# Altium footprint library Fuses.PcbLib: 7 footprints
Each footprint in its own frame and in the unit in brackets; x right, y up, seen from the top. Pads: shape width x height; smd on the part's side, far side on the other; paste and mask are expansions set on the pad; w line width, h text height; cw(c..) or ccw(c..) is an arc to the next point about the centre after c.
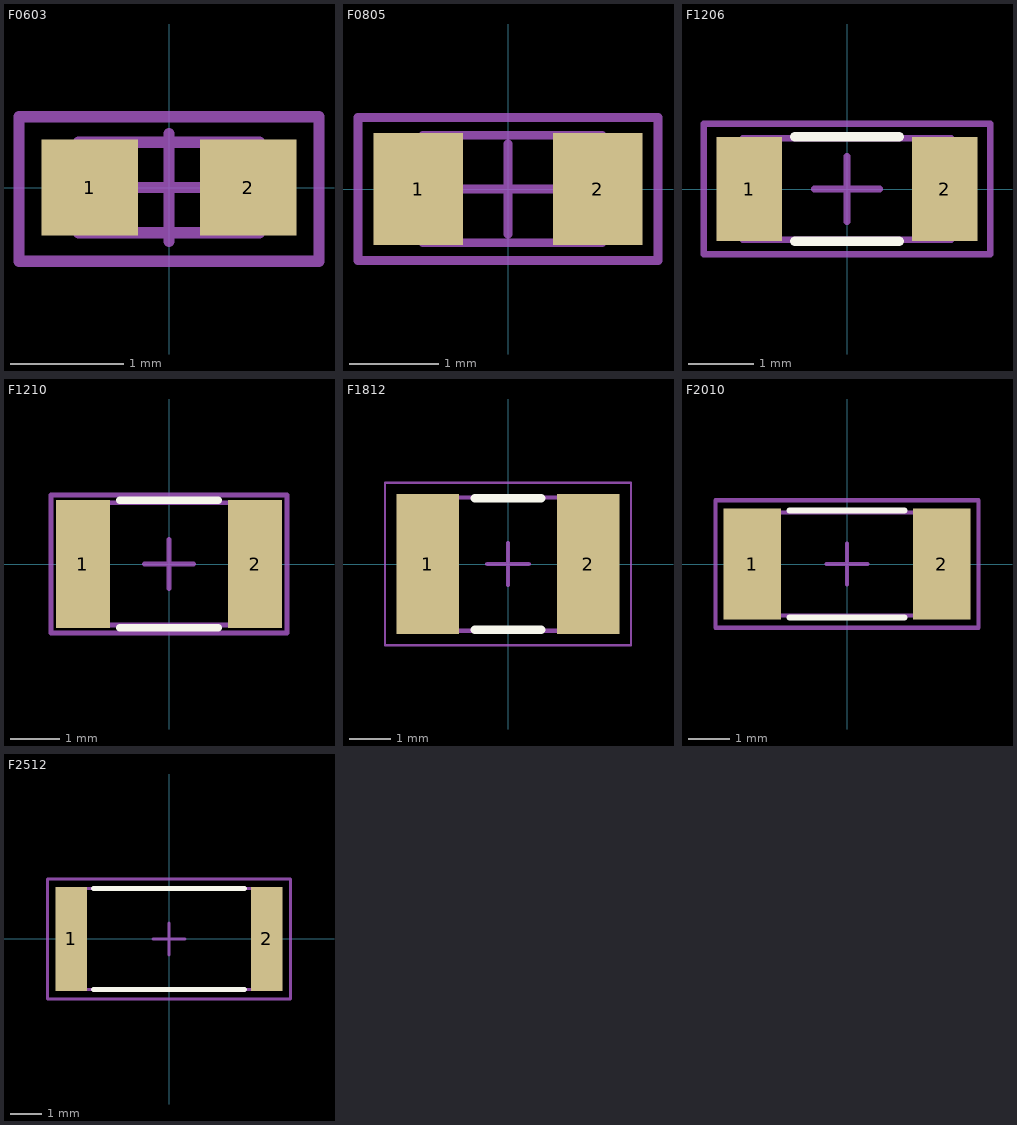
[diagram p0: the footprints below, top view; thin cyan lines are the x and y axes]

## F0603 [mm]
height 0.45
pads (2):
  rect 0.85x0.85 smd: 1(-0.7,0) 2(0.7,0)
Top Assembly (Mech3):
  lines w0.1: -0.8,-0.4 0.8,-0.4 0.8,0.4 -0.8,0.4 -0.8,-0.4
Top Courtyard:
  lines w0.1: -0.475,0 0.475,0 ; 0,-0.475 0,0.475 ; -1.325,-0.65 -1.325,0.625 1.325,0.625 1.325,-0.65 -1.325,-0.65

## F0805 [mm]
height 0.45
pads (2):
  rect 1x1.25 smd: 1(-1,0) 2(1,0)
Top Assembly (Mech3):
  lines w0.1: -0.949,-0.6 1.05,-0.6 1.05,0.6 -0.949,0.6 -0.949,-0.6
Top Courtyard:
  lines w0.1: -0.5,0 0.5,0 ; 0,-0.5 0,0.5 ; -1.675,-0.8 -1.675,0.8 1.675,0.8 1.675,-0.8 -1.675,-0.8

## F1206 [mm]
height 0.6
pads (2):
  rect 1x1.6 smd: 1(-1.5,0) 2(1.5,0)
Top Overlay:
  lines w0.15: -0.8,-0.8 0.8,-0.8 ; -0.8,0.8 0.8,0.8
Top Assembly (Mech3):
  lines w0.1: -1.6,-0.775 1.6,-0.775 1.6,0.775 -1.6,0.775 -1.6,-0.775
Top Courtyard:
  lines w0.1: -0.5,0 0.5,0 ; 0,-0.5 0,0.5 ; -2.2,-1 -2.2,1 2.2,1 2.2,-1 -2.2,-1
3D body "User Library-Fuse 1206 0ZCJ0035FF2G-1.STEP": height 0.51, standoff 0.01, extent -1.7,-0.85 1.7,0.85

## F1210 [mm]
height 2.5
pads (2):
  rect 1.1x2.6 smd: 1(-1.75,0) 2(1.75,0)
Top Overlay:
  lines w0.15: -1,-1.3 1,-1.3 ; -1,1.3 1,1.3
Top Assembly (Mech3):
  lines w0.1: -2,-1.244 -2,1.245 2,1.245 2,-1.244 -2,-1.244
Top Courtyard:
  lines w0.1: -0.5,0 0.5,0 ; 0,-0.5 0,0.5 ; -2.4,-1.4 2.4,-1.4 2.4,1.4 -2.4,1.4 -2.4,-1.4
3D body "ALSRobot-Fuse1210.STEP": height 0.67, standoff 0, extent -1.607,-1.287 1.608,1.288

## F1812 [mm]
height 1.4
pads (2):
  rect 1.5x3.35 smd: 1(-1.925,0) 2(1.925,0)
Top Overlay:
  lines w0.2: -0.8,-1.575 0.8,-1.575 ; -0.8,1.575 0.8,1.575
Top Assembly (Mech3):
  lines w0.1: -2.25,-1.6 -2.25,1.6 2.25,1.6 2.25,-1.6 -2.25,-1.6
Top Courtyard:
  lines w0.05: -2.95,-1.95 -2.95,1.95 2.95,1.95 2.95,-1.95 -2.95,-1.95
  lines w0.1: -0.5,0 0.5,0 ; 0,-0.5 0,0.5
3D body "User Library-Fuse 1812.STEP": height 1.03, standoff 0, extent -2.365,-1.74 2.37,1.74

## F2010 [mm]
height 0.55
pads (2):
  rect 1.4x2.7 smd: 1(-2.3,0) 2(2.3,0)
Top Overlay:
  lines w0.15: -1.4,-1.3 1.4,-1.3 ; -1.4,1.3 1.4,1.3
Top Assembly (Mech3):
  lines w0.1: -2.5,-1.25 -2.5,1.25 2.5,1.25 2.5,-1.25 -2.5,-1.25
Top Courtyard:
  lines w0.1: -0.5,0 0.5,0 ; 0,-0.5 0,0.5 ; -3.2,-1.55 -3.2,1.55 3.2,1.55 3.2,-1.55 -3.2,-1.55

## F2512 [mm]
height 0.55
pads (2):
  rect 1x3.3 smd: 1(-3.1,0) 2(3.1,0)
Top Overlay:
  lines w0.15: -2.4,-1.6 2.4,-1.6 ; -2.4,1.6 2.4,1.6
Top Assembly (Mech3):
  lines w0.1: -3.175,-1.6 3.175,-1.6 3.175,1.6 -3.175,1.6 -3.175,-1.6
Top Courtyard:
  lines w0.1: -0.5,0 0.5,0 ; 0,-0.5 0,0.5 ; -3.85,-1.9 -3.85,1.9 3.85,1.9 3.85,-1.9 -3.85,-1.9